# EAGLE library part ADC128S022 (library inanna)
ADC128S022 8-channel 12-bit SPI ADC
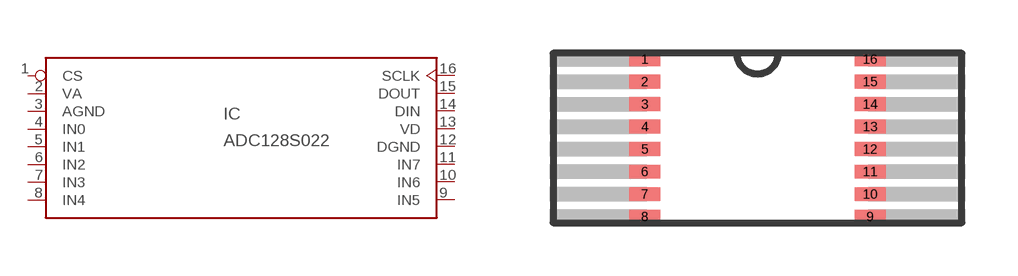
[diagram p6: symbol with the pads of ADC128S022; footprint ADC128S022]

Designator prefix IC

## ADC128S022  [ADC128S022]
1  CS  in
2  VA  pwr
3  AGND  pwr
4  IN0  in
5  IN1  in
6  IN2  in
7  IN3  in
8  IN4  in
9  IN5  in
10  IN6  in
11  IN7  in
12  DGND  pwr
13  VD  pwr
14  DIN
15  DOUT
16  SCLK

## Footprint ADC128S022 (pad centres in mm)
ADC128S022 Auto generated by make-symbol-device-package-bsdl.ulp Rev. 43
smd 0.9 x 0.4: 1 -3.25,2.275; 2 -3.25,1.625; 3 -3.25,0.975; 4 -3.25,0.325; 5 -3.25,-0.325; 6 -3.25,-0.975; 7 -3.25,-1.625; 8 -3.25,-2.275; 9 3.25,-2.275; 10 3.25,-1.625; 11 3.25,-0.975; 12 3.25,-0.325; 13 3.25,0.325; 14 3.25,0.975; 15 3.25,1.625; 16 3.25,2.275